# EAGLE library part CAS-220A (library CPSS_MISC)
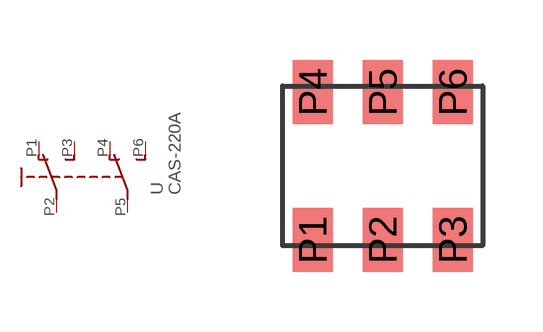
[diagram p0: symbol with the pads of CAS220B1; footprint CAS220B1]

Designator prefix -

## CAS-220A  [CAS220B1]
P1  O  pas
P2  P  pas
P3  S  pas
P4  O1  pas
P5  P1  pas
P6  S1  pas

## Footprint CAS220B1 (pad centres in mm)
smd 1 x 1.6: P1 -1.75,-1.85; P2 0,-1.85; P3 1.75,-1.85; P4 -1.75,1.85; P5 0,1.85; P6 1.75,1.85